# Altium schematic symbol library SQMR733KJ.SchLib: 1 symbol
Pins are listed as number, name and electrical type; pins without a type are passive.

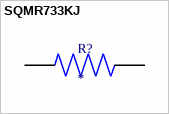
[diagram p0: symbol SQMR733KJ]

## SQMR733KJ
designator R?
SQMR733KJ; Package: None; Price: None; Value: *; MP: SQMR733KJ; Availability: Unavailable
footprint RESRR500W80L1400T1000H4050
pins: 1, 2